# Altium integrated library JUMPER.IntLib: 2 symbols
Pins are listed as number, name and electrical type; pins without a type are passive.

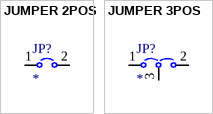
[diagram p0: symbols JUMPER 2POS to JUMPER 3POS]

## JUMPER 2POS
designator JP?
footprint HDR1X2_2.54_180
footprint HDR1X2_2.54_180F
pins: 1, 2

## JUMPER 3POS
designator JP?
footprint HDR1X3_2.54_180
footprint HDR1X3_2.54_180F
pins: 1, 2, 3